# Altium schematic symbol library USB_Camera.SchLib: 1 symbol
Pins are listed as number, name and electrical type; pins without a type are passive.

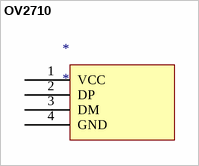
[diagram p0: symbol OV2710]

## OV2710
designator *
pins: 1 VCC, 2 DP, 3 DM, 4 GND